# Altium footprint library SI4432-LCC16.PcbLib: 2 footprints
Each footprint in its own frame and in the unit in brackets; x right, y up, seen from the top. Pads: shape width x height; smd on the part's side, far side on the other; paste and mask are expansions set on the pad; w line width, h text height; cw(c..) or ccw(c..) is an arc to the next point about the centre after c.
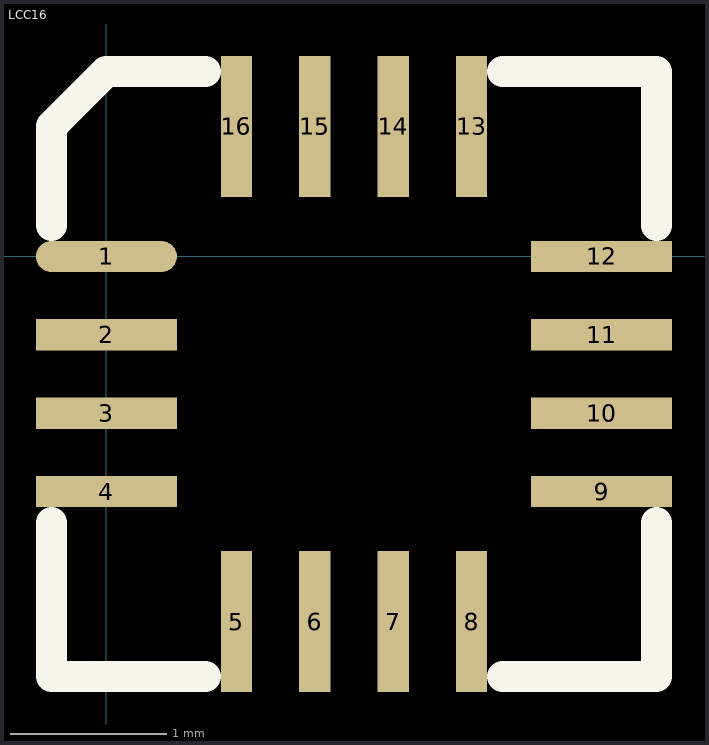
[diagram p0: the footprints below, top view; thin cyan lines are the x and y axes]

## LCC16 [mm]
pads (16):
  oval 0.9x0.2 smd: 1(0,0)
  rect 0.9x0.2 smd: 2(0,-0.5) 3(0,-1) 4(0,-1.5) 9(3.16,-1.5) 10(3.16,-1) 11(3.16,-0.5) 12(3.16,0)
  rect 0.2x0.9 smd: 5(0.83,-2.33) 6(1.33,-2.33) 7(1.83,-2.33) 8(2.33,-2.33) 13(2.33,0.83) 14(1.83,0.83) 15(1.33,0.83) 16(0.83,0.83)
Top Overlay:
  lines w0.2: -0.35,-1.7 -0.35,-2.68 0.63,-2.68 ; -0.35,0.2 -0.35,0.83 0,1.18 0.63,1.18 ; 2.53,-2.68 3.51,-2.68 3.51,-1.7 ; 2.53,1.18 3.51,1.18 3.51,0.2

## PCBComponent_1 [mm]